# Altium footprint library Motorola Power Mgt Voltage Regulator.PcbLib: 22 footprints (part 1 of 2)
Each footprint in its own frame and in the unit in brackets; x right, y up, seen from the top. Pads: shape width x height; smd on the part's side, far side on the other; paste and mask are expansions set on the pad; w line width, h text height; cw(c..) or ccw(c..) is an arc to the next point about the centre after c.
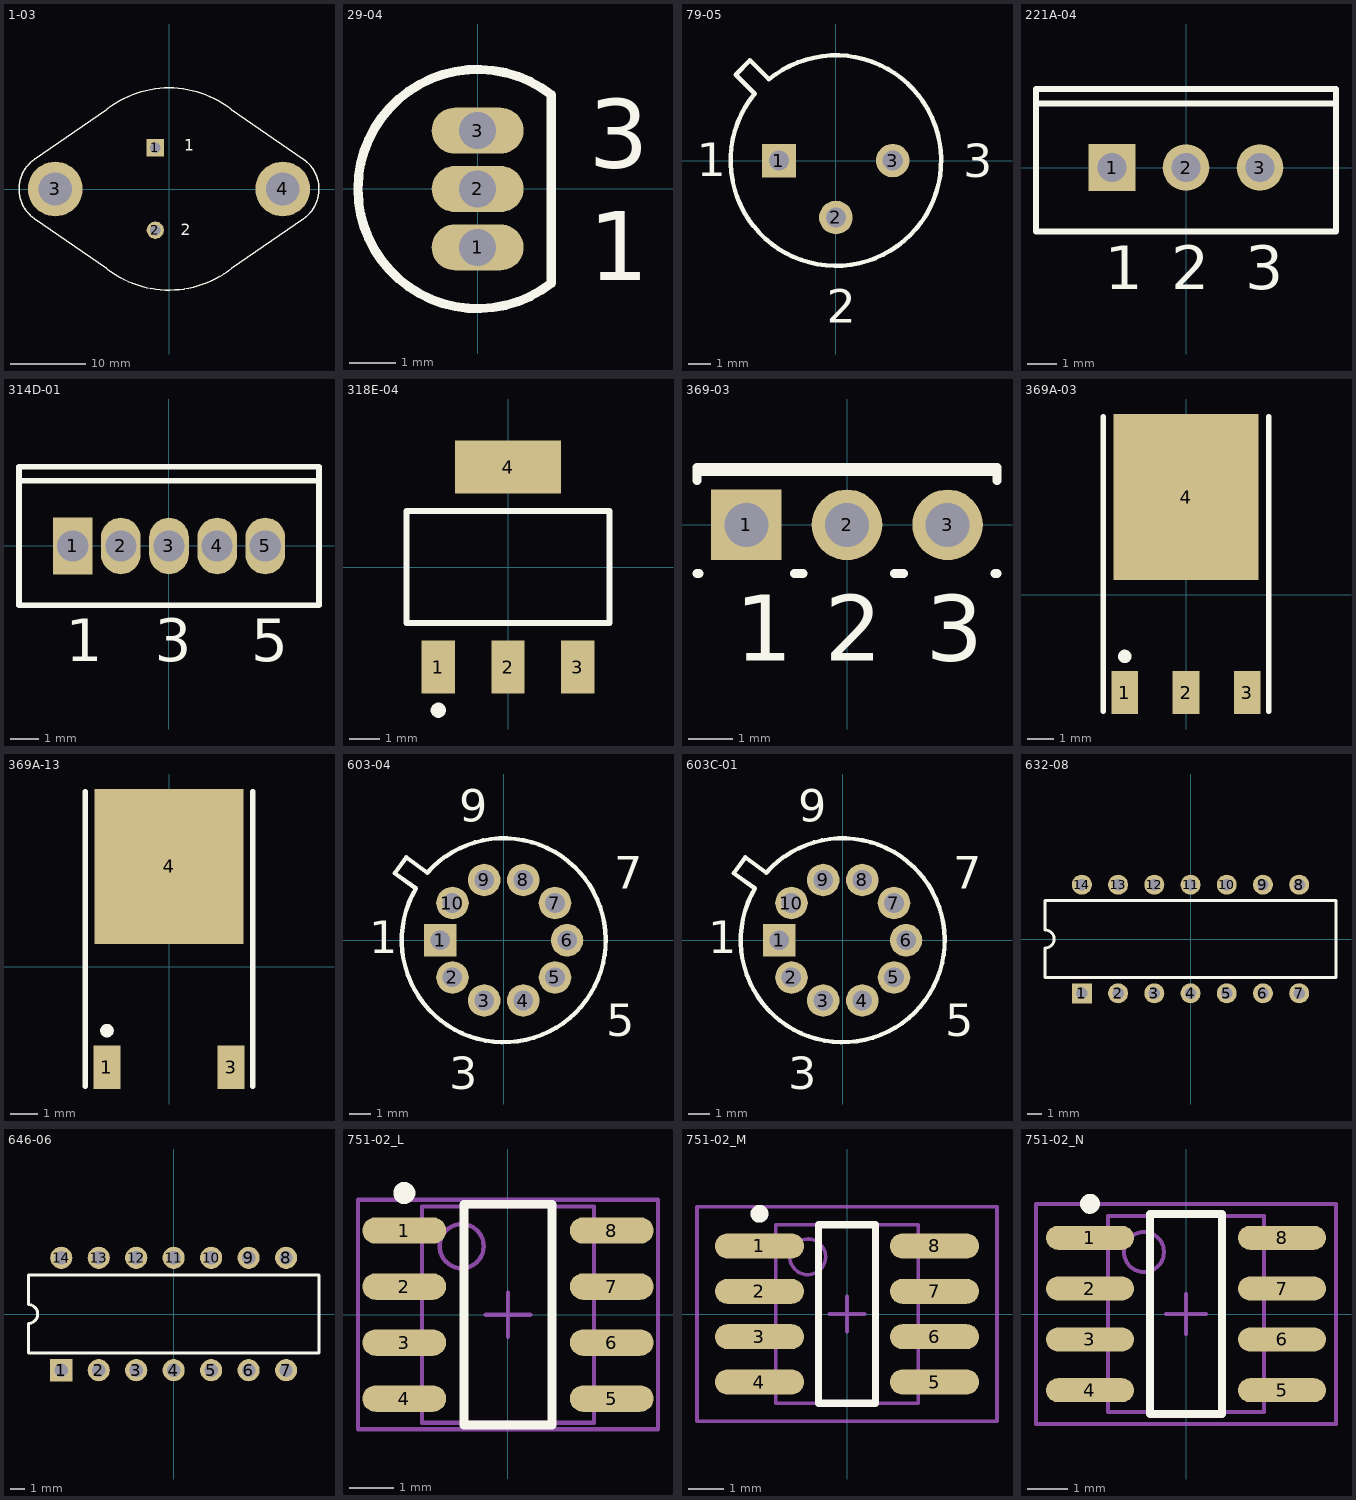
[diagram p0: the footprints below, top view; thin cyan lines are the x and y axes]

## 1-03 [mm] "Oval Flange Mount with (2) Offset Leads; Pin Spacing 10.92 mm; Lead Dia. 1.09 mm (max)"
height 11.43
pads (4):
  rect 2.3x2.3 hole 1.4: 1(-1.815,5.46)
  round 2.3 hole 1.4: 2(-1.815,-5.46)
  round 7.25 hole 4.4: 3(-15.075,0) 4(15.075,0)
Top Overlay:
  lines w0.2: -17.84,-3.93 -8.299,-10.521 ; -17.84,3.94 -8.299,10.521 ; -17.828,-3.932 cw(c-15.075,0) -17.828,3.932 ; -8.613,-10.265 ccw(c0,0) 8.298,-10.521 17.82,-3.94 ; -8.613,10.265 cw(c0,0) 8.613,10.265 ; 8.299,10.521 17.68,4.03 ; 17.689,4.026 cw(c15.075,0) 17.828,-3.932
  text "1" at 2.032,5.08 h1.5
  text "2" at 1.524,-6.096 h1.5

## 29-04 [mm] "TO, Flat Index; 3 In-Line, Axial Leads; Body Dia. 4.8mm; Leads 0.48 x 0.5 mm (max)"
height 5.33
pads (3):
  oval 2x1 hole 0.8: 1(0,-1.27) 2(0,0) 3(0,1.27)
Top Overlay:
  lines w0.2: 1.601,-2.049 cw(c0,0) 1.601,2.049 ; 1.6,-1.99 1.6,1.99
  text "1" at 2.421,-1.979 h1.5
  text "3" at 2.421,0.467 h1.5

## 79-05 [mm] "Can; 3 Leads; Pin Circle Dia. 5.08 mm; Lead Dia. 0.53 mm (max)"
height 4.57
pads (3):
  rect 1.5x1.5 hole 0.9: 1(-2.54,0)
  round 1.5 hole 0.9: 2(0,-2.54) 3(2.54,0)
Top Overlay:
  lines w0.2: -4.475,3.838 -3.626,2.99 ccw(c0,0) -2.99,3.626 -3.838,4.475 -4.475,3.838
  text "1" at -6.201,-0.697 h1.5
  text "2" at -0.415,-7.238 h1.5
  text "3" at 5.694,-0.751 h1.5

## 221A-04 [mm] "TO, Thru-Hole, Vertical, Heatsink Mounted; 3 In-Line Leads; Pitch 2.54 mm"
height 19.7
pads (3):
  rect 1.6x1.6 hole 1: 1(-2.54,0)
  round 1.6 hole 1: 2(0,0) 3(2.54,0)
Top Overlay:
  lines w0.2: -5.15,2.2 5.15,2.2 ; -5.15,-2.2 -5.15,2.7 5.15,2.7 5.15,-2.2 -5.15,-2.2
  text "3" at 2.04,-4.175 h1.5
  text "2" at -0.5,-4.175 h1.5
  text "1" at -2.79,-4.175 h1.5

## 314D-01 [mm] "TO, Thru-Hole, Vertical, Heatsink Mounted; 5 In-Line Leads; Pitch 1.70 mm"
height 15.9
pads (5):
  rect 1.4x2 hole 1.1: 1(-3.4,0)
  oval 1.4x2 hole 1.1: 2(-1.7,0) 3(0,0) 4(1.7,0) 5(3.4,0)
Top Overlay:
  lines w0.2: -5.3,2.3 5.3,2.3 ; -5.3,-2.1 -5.3,2.8 5.3,2.8 5.3,-2.1 -5.3,-2.1
  text "5" at 2.9,-4.075 h1.5
  text "3" at -0.5,-4.075 h1.5
  text "1" at -3.65,-4.075 h1.5

## 318E-04 [mm] "SOT-223/SC-73; 4 Leads; Body 6.7 x 7.3 mm, inc. leads (LxW max)"
height 1.75
pads (4):
  rect 1.1x1.75 smd: 1(-2.3,-3.3) 2(0,-3.3) 3(2.3,-3.3)
  rect 3.5x1.75 smd: 4(0,3.3)
Top Overlay:
  circle w0.25: c-2.3,-4.725 r0.125
  lines w0.2: -3.35,-1.85 3.35,-1.85 3.35,1.85 -3.35,1.85 -3.35,-1.85

## 369-03 [mm] "TO, Thru-Hole, Vertical, Heatsink Mounted; 3 In-Line Leads; Pitch 2.28 mm"
height 9.7
pads (3):
  rect 1.6x1.6 hole 1: 1(-2.28,0)
  round 1.6 hole 1: 2(0,0) 3(2.28,0)
Top Overlay:
  lines w0.2: -3.4,-1.1 -3.35,-1.1 ; -3.4,1 -3.4,1.3 3.4,1.3 3.4,1 ; -3.4,1.21 3.4,1.21 ; -1.19,-1.1 -0.99,-1.1 ; 1.08,-1.1 1.28,-1.1 ; 3.35,-1.1 3.4,-1.1
  text "1" at -2.53,-3.075 h1.5
  text "2" at -0.5,-3.075 h1.5
  text "3" at 1.78,-3.075 h1.5

## 369A-03 [mm] "D-PAK/TO-252-AA; 3 Leads (1 Cropped); Body 10.2 (inc. leads) x 6.7 mm (LxW max)"
height 2.38
pads (4):
  rect 1x1.6 smd: 1(-2.285,-3.65) 2(0,-3.65) 3(2.285,-3.65)
  rect 5.4x6.2 smd: 4(0,3.65)
Top Overlay:
  circle w0.25: c-2.285,-2.3 r0.125
  lines w0.2: -3.085,-4.35 -3.085,6.65 ; 3.085,-4.35 3.085,6.65

## 369A-13 [mm] "D-PAK/TO-252-AA; 3 Leads (1 Cropped); Body 10.3 (inc. leads) x 6.7 mm (LxW max)"
height 2.38
pads (3):
  rect 1x1.6 smd: 1(-2.285,-3.7) 3(2.285,-3.7)
  rect 5.5x5.7 smd: 4(0,3.7)
Top Overlay:
  circle w0.25: c-2.285,-2.35 r0.125
  lines w0.2: -3.085,-4.4 -3.085,6.45 ; 3.085,-4.4 3.085,6.45

## 603-04 [mm] "Can; 10 Leads; Pin Circle Dia. 5.84 mm; Lead Dia. 0.53 mm (max)"
height 4.7
pads (10):
  rect 1.5x1.5 hole 0.9: 1(-2.92,0)
  round 1.5 hole 0.9: 2(-2.362,-1.716) 3(-0.902,-2.777) 4(0.902,-2.777) 5(2.362,-1.716) 6(2.92,0) 7(2.362,1.716) 8(0.902,2.777) 9(-0.902,2.777) 10(-2.362,1.716)
Top Overlay:
  lines w0.2: -4.049,2.386 -5.02,3.091 -4.491,3.819 -3.52,3.114 cw(c0,0) -4.049,2.386
  text "1" at -6.207,-0.592 h1.5
  text "3" at -2.511,-6.856 h1.5
  text "5" at 4.736,-4.434 h1.5
  text "7" at 5.1,2.376 h1.5
  text "9" at -2.056,5.471 h1.5

## 603C-01 [mm] "Can; 10 Leads; Pin Circle Dia. 5.84 mm; Lead Dia. 0.53 mm (max)"
height 6.73
pads (10):
  rect 1.5x1.5 hole 0.9: 1(-2.92,0)
  round 1.5 hole 0.9: 2(-2.362,-1.716) 3(-0.902,-2.777) 4(0.902,-2.777) 5(2.362,-1.716) 6(2.92,0) 7(2.362,1.716) 8(0.902,2.777) 9(-0.902,2.777) 10(-2.362,1.716)
Top Overlay:
  lines w0.2: -4.049,2.386 -5.02,3.091 -4.491,3.819 -3.52,3.114 cw(c0,0) -4.049,2.386
  text "1" at -6.207,-0.592 h1.5
  text "3" at -2.511,-6.856 h1.5
  text "5" at 4.736,-4.434 h1.5
  text "7" at 5.1,2.376 h1.5
  text "9" at -2.056,5.471 h1.5

## 632-08 [mm] "DIP; 14 Leads; Row Spacing 7.62 mm; Pitch 2.54 mm"
height 5.08
pads (14):
  rect 1.4x1.4 hole 0.8: 1(-7.62,-3.81)
  round 1.4 hole 0.8: 2(-5.08,-3.81) 3(-2.54,-3.81) 4(0,-3.81) 5(2.54,-3.81) 6(5.08,-3.81) 7(7.62,-3.81) 8(7.62,3.81) 9(5.08,3.81) 10(2.54,3.81) 11(0,3.81) 12(-2.54,3.81) 13(-5.08,3.81) 14(-7.62,3.81)
Top Overlay:
  lines w0.2: -10.2,-2.7 10.2,-2.7 10.2,2.7 -10.2,2.7 -10.2,0.635 cw(c-10.2,0) -10.2,-0.635 -10.2,-2.7

## 646-06 [mm] "DIP; 14 Leads; Row Spacing 7.62 mm; Pitch 2.54 mm"
height 4.69
pads (14):
  rect 1.5x1.5 hole 0.9: 1(-7.62,-3.81)
  round 1.5 hole 0.9: 2(-5.08,-3.81) 3(-2.54,-3.81) 4(0,-3.81) 5(2.54,-3.81) 6(5.08,-3.81) 7(7.62,-3.81) 8(7.62,3.81) 9(5.08,3.81) 10(2.54,3.81) 11(0,3.81) 12(-2.54,3.81) 13(-5.08,3.81) 14(-7.62,3.81)
Top Overlay:
  lines w0.2: -9.85,-2.65 -9.85,-0.635 ccw(c-9.85,0) -9.85,0.635 -9.85,2.65 9.85,2.65 9.85,-2.65 -9.85,-2.65

## 751-02_L [mm] "SOIC, 8-Leads, Body 4.9x3.9mm, Pitch 1.27mm, IPC High Density"
height 1.75
pads (8):
  oval 1.9x0.6 smd: 1(-2.35,1.905) 2(-2.35,0.635) 3(-2.35,-0.635) 4(-2.35,-1.905) 5(2.35,-1.905) 6(2.35,-0.635) 7(2.35,0.635) 8(2.35,1.905)
Top Overlay:
  circle w0.25: c-2.35,2.755 r0.125
  lines w0.2: -1,-2.5 1,-2.5 1,2.5 -1,2.5 -1,-2.5
Mechanical 13:
  circle w0.1: c-1.05,1.55 r0.5
  lines w0.1: -1.95,-2.45 1.95,-2.45 1.95,2.45 -1.95,2.45 -1.95,-2.45
Mechanical 15:
  lines w0.1: -0.5,0 0.5,0 ; 0,-0.5 0,0.5 ; -3.4,-2.6 3.4,-2.6 3.4,2.6 -3.4,2.6 -3.4,-2.6
3D body: height 1.75, standoff 0, extent -1.95,-2.45 1.95,2.45

## 751-02_M [mm] "SOIC, 8-Leads, Body 4.9x3.9mm, Pitch 1.27mm, IPC Low Density"
height 1.75
pads (8):
  oval 2.5x0.7 smd: 1(-2.45,1.905) 2(-2.45,0.635) 3(-2.45,-0.635) 4(-2.45,-1.905) 5(2.45,-1.905) 6(2.45,-0.635) 7(2.45,0.635) 8(2.45,1.905)
Top Overlay:
  circle w0.25: c-2.45,2.805 r0.125
  lines w0.2: -0.8,-2.5 -0.8,2.5 0.8,2.5 0.8,-2.5 -0.8,-2.5
Mechanical 13:
  circle w0.1: c-1.1,1.6 r0.5
  lines w0.1: -2,-2.5 -2,2.5 2,2.5 2,-2.5 -2,-2.5
Mechanical 15:
  lines w0.1: -0.5,0 0.5,0 ; 0,-0.5 0,0.5 ; -4.2,-3 -4.2,3 4.2,3 4.2,-3 -4.2,-3
3D body: height 1.75, standoff 0, extent -2,-2.5 2,2.5

## 751-02_N [mm] "SOIC, 8-Leads, Body 4.9x3.9mm, Pitch 1.27mm, IPC Medium Density"
height 1.75
pads (8):
  oval 2.2x0.6 smd: 1(-2.4,1.905) 2(-2.4,0.635) 3(-2.4,-0.635) 4(-2.4,-1.905) 5(2.4,-1.905) 6(2.4,-0.635) 7(2.4,0.635) 8(2.4,1.905)
Top Overlay:
  circle w0.25: c-2.4,2.755 r0.125
  lines w0.2: -0.9,-2.5 -0.9,2.5 0.9,2.5 0.9,-2.5 -0.9,-2.5
Mechanical 13:
  circle w0.1: c-1.05,1.55 r0.5
  lines w0.1: -1.95,-2.45 -1.95,2.45 1.95,2.45 1.95,-2.45 -1.95,-2.45
Mechanical 15:
  lines w0.1: -0.5,0 0.5,0 ; 0,-0.5 0,0.5 ; -3.75,-2.75 -3.75,2.75 3.75,2.75 3.75,-2.75 -3.75,-2.75
3D body: height 1.75, standoff 0, extent -1.95,-2.45 1.95,2.45